# Altium integrated library Linear Technology Power Management Switching Regulator LTC1174-LTC3901.IntLib: 2647 symbols (part 98 of 364)
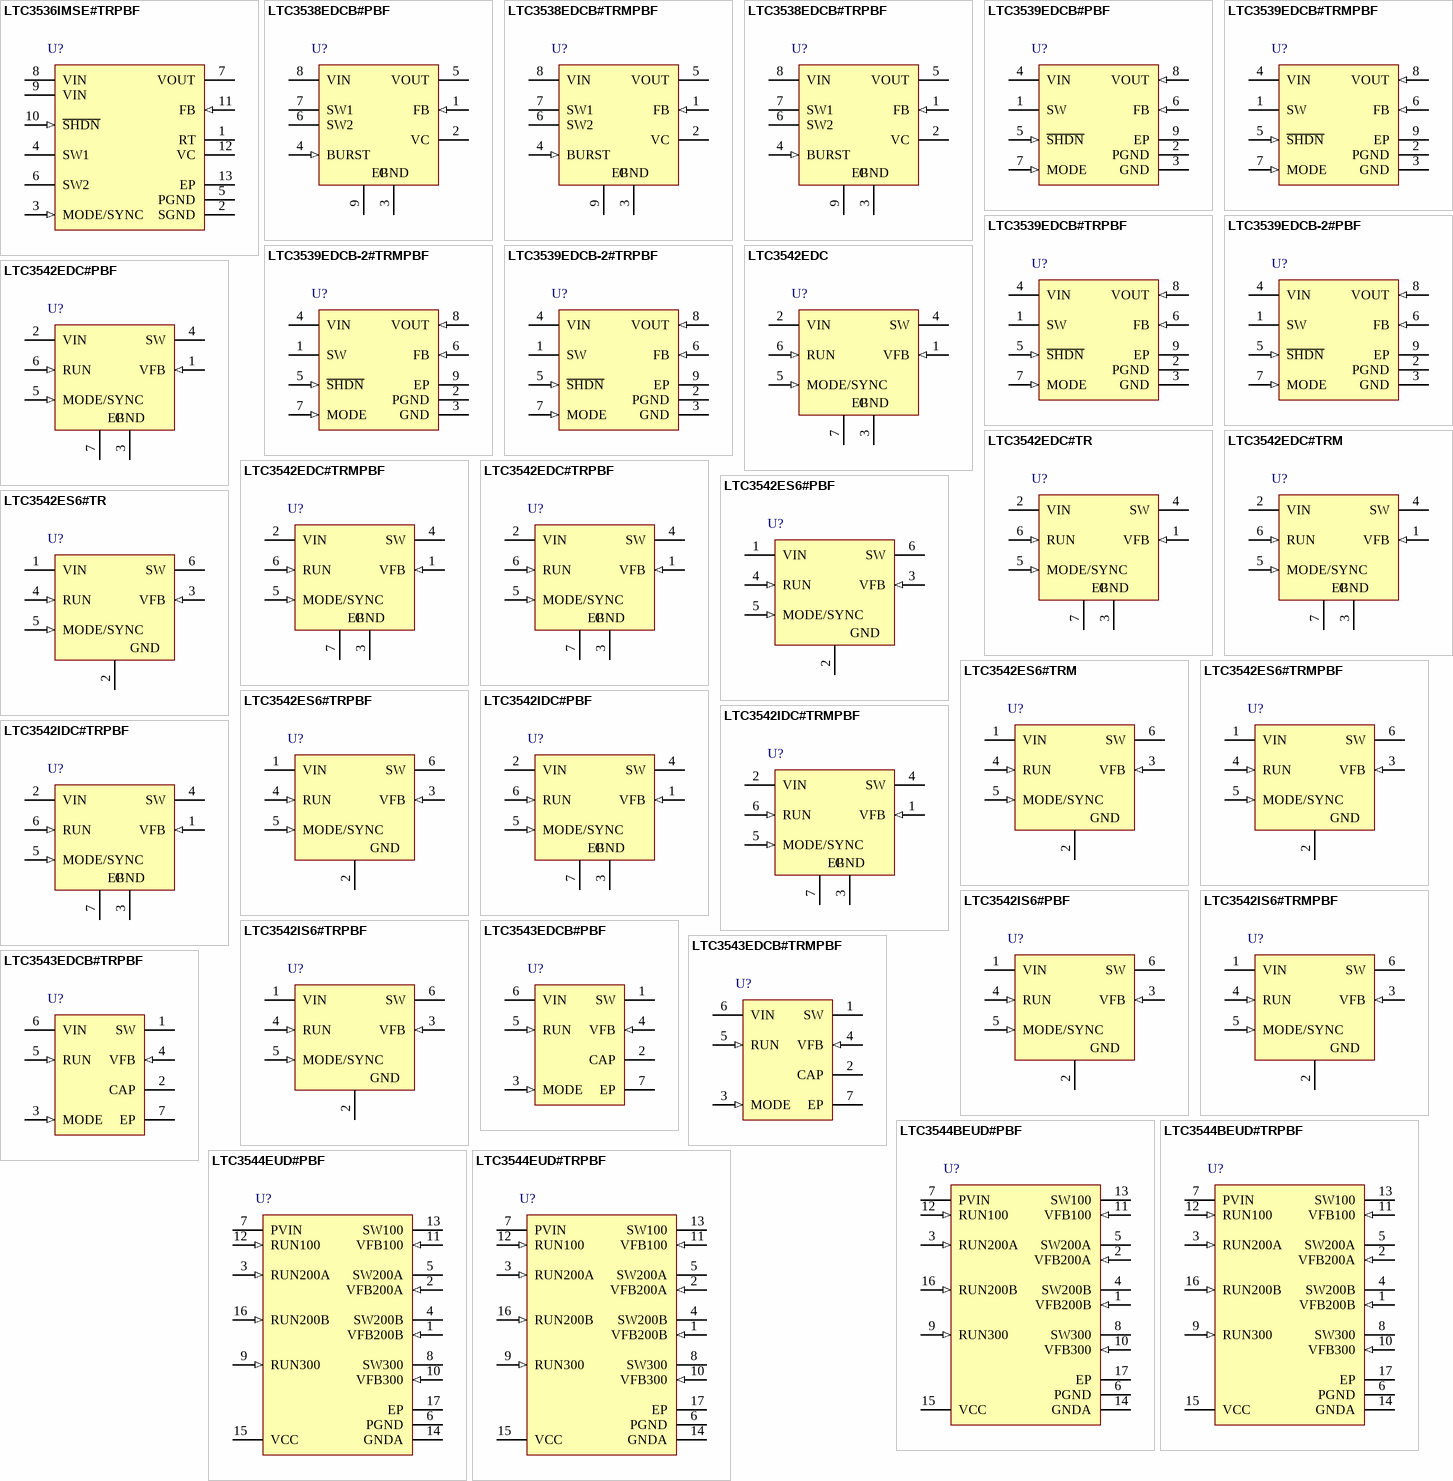
[diagram p165: symbols LTC3536IMSE#TRPBF to LTC3544EUD#TRPBF]

## LTC3542EDC
designator U?
500 mA, 2.25 MHz Synchronous Step-Down DC/DC Converter, 6-pin SON (DC6-6), -40 to 85 degC; Manufacturer: Linear Technology; PartNumber: LTC3542EDC; Number of Outputs: 1; DatasheetVersion: Rev. A; PackageVersion: Rev. B, 06/2010; PackageReference: DC6-6; PackageDescription: 6-Pin Plastic DFN, Body 2 x 2 mm, Pitch 0.5 mm; RoHS: FALSE; Mounting Technology: Surface Mount; Code_JEDEC: MO-229; ComponentLink1Description: Manufacturer URL; ComponentLink1URL: http://www.linear.com/; ComponentLink2Description: Datasheet; ComponentLink2URL: http://cds.linear.com/docs/en/datasheet/3542fa.pdf; ComponentLink3Description: Package Specification; ComponentLink3URL: http://cds.linear.com/docs/en/packaging/DFN_6_05-08-1703.pdf
footprint LT-DC6-6_V (SON, 6-Leads, Body 2x2mm, Pitch 0.5mm, Thermal Pad 1.42x0.61mm)
pins: 1 VFB (in) "Output Feedback Pin. Receives the feedback voltage from an external resistive divider across the output. Nominal voltage for this pin is 0.6V.", 2 VIN (power) "Power Supply Pin. Must be closely decoupled to GND.", 3 GND (power) "Ground Pin.", 4 SW (power) "Switch Node Connection to Inductor. This pin connects to the drains of the internal main and synchronous power MOSFET switches.", 5 MODE/SYNC (in) "Mode Selection and Oscillator Synchronization Pin. This pin controls the operation of the device. When tied to GND or VIN, Burst Mode operation or pulse skipping mode is selected, respectively. Do not float this pin. The (See Datasheet)", 6 RUN (in) "Converter Enable Pin. Forcing this pin above 1.5V enables this part, while forcing it below 0.3V causes the device to shut down. In shutdown, all functions are disabled drawing <1uA supply current. This pin must be driven; (See Datasheet)", 7 EP (power) "Exposed Pad. The Exposed Pad is ground. It must be soldered to PCB ground to provide both electrical contact and optimum thermal performance."

## LTC3542EDC#PBF
designator U?
500 mA, 2.25 MHz Synchronous Step-Down DC/DC Converter, 6-pin SON (DC6-6), -40 to 85 degC, Pb-Free; Manufacturer: Linear Technology; PartNumber: LTC3542EDC#PBF; Number of Outputs: 1; DatasheetVersion: Rev. A; PackageVersion: Rev. B, 06/2010; PackageReference: DC6-6; PackageDescription: 6-Pin Plastic DFN, Body 2 x 2 mm, Pitch 0.5 mm; Supplier 1: Farnell; Supplier Part Number 1: 2308147; Supplier 2: Newark; Supplier Part Number 2: 78T3203; RoHS: TRUE; Mounting Technology: Surface Mount; Code_JEDEC: MO-229; ComponentLink1Description: Manufacturer URL; ComponentLink1URL: http://www.linear.com/; ComponentLink2Description: Datasheet; ComponentLink2URL: http://cds.linear.com/docs/en/datasheet/3542fa.pdf; ComponentLink3Description: Package Specification; ComponentLink3URL: http://cds.linear.com/docs/en/packaging/DFN_6_05-08-1703.pdf
footprint LT-DC6-6_V (SON, 6-Leads, Body 2x2mm, Pitch 0.5mm, Thermal Pad 1.42x0.61mm)
pins: 1 VFB (in) "Output Feedback Pin. Receives the feedback voltage from an external resistive divider across the output. Nominal voltage for this pin is 0.6V.", 2 VIN (power) "Power Supply Pin. Must be closely decoupled to GND.", 3 GND (power) "Ground Pin.", 4 SW (power) "Switch Node Connection to Inductor. This pin connects to the drains of the internal main and synchronous power MOSFET switches.", 5 MODE/SYNC (in) "Mode Selection and Oscillator Synchronization Pin. This pin controls the operation of the device. When tied to GND or VIN, Burst Mode operation or pulse skipping mode is selected, respectively. Do not float this pin. The (See Datasheet)", 6 RUN (in) "Converter Enable Pin. Forcing this pin above 1.5V enables this part, while forcing it below 0.3V causes the device to shut down. In shutdown, all functions are disabled drawing <1uA supply current. This pin must be driven; (See Datasheet)", 7 EP (power) "Exposed Pad. The Exposed Pad is ground. It must be soldered to PCB ground to provide both electrical contact and optimum thermal performance."

## LTC3542EDC#TR
designator U?
500 mA, 2.25 MHz Synchronous Step-Down DC/DC Converter, 6-pin SON (DC6-6), -40 to 85 degC, Tape and Reel; Manufacturer: Linear Technology; PartNumber: LTC3542EDC#TR; Number of Outputs: 1; DatasheetVersion: Rev. A; PackageVersion: Rev. B, 06/2010; PackageReference: DC6-6; PackageDescription: 6-Pin Plastic DFN, Body 2 x 2 mm, Pitch 0.5 mm; Packing: Tape and Reel; RoHS: FALSE; Mounting Technology: Surface Mount; Code_JEDEC: MO-229; ComponentLink1Description: Manufacturer URL; ComponentLink1URL: http://www.linear.com/; ComponentLink2Description: Datasheet; ComponentLink2URL: http://cds.linear.com/docs/en/datasheet/3542fa.pdf; ComponentLink3Description: Package Specification; ComponentLink3URL: http://cds.linear.com/docs/en/packaging/DFN_6_05-08-1703.pdf
footprint LT-DC6-6_V (SON, 6-Leads, Body 2x2mm, Pitch 0.5mm, Thermal Pad 1.42x0.61mm)
pins: 1 VFB (in) "Output Feedback Pin. Receives the feedback voltage from an external resistive divider across the output. Nominal voltage for this pin is 0.6V.", 2 VIN (power) "Power Supply Pin. Must be closely decoupled to GND.", 3 GND (power) "Ground Pin.", 4 SW (power) "Switch Node Connection to Inductor. This pin connects to the drains of the internal main and synchronous power MOSFET switches.", 5 MODE/SYNC (in) "Mode Selection and Oscillator Synchronization Pin. This pin controls the operation of the device. When tied to GND or VIN, Burst Mode operation or pulse skipping mode is selected, respectively. Do not float this pin. The (See Datasheet)", 6 RUN (in) "Converter Enable Pin. Forcing this pin above 1.5V enables this part, while forcing it below 0.3V causes the device to shut down. In shutdown, all functions are disabled drawing <1uA supply current. This pin must be driven; (See Datasheet)", 7 EP (power) "Exposed Pad. The Exposed Pad is ground. It must be soldered to PCB ground to provide both electrical contact and optimum thermal performance."

## LTC3542EDC#TRM
designator U?
500 mA, 2.25 MHz Synchronous Step-Down DC/DC Converter, 6-pin SON (DC6-6), -40 to 85 degC, Mini Tape and Reel; Manufacturer: Linear Technology; PartNumber: LTC3542EDC#TRM; Number of Outputs: 1; DatasheetVersion: Rev. A; PackageVersion: Rev. B, 06/2010; PackageReference: DC6-6; PackageDescription: 6-Pin Plastic DFN, Body 2 x 2 mm, Pitch 0.5 mm; Packing: Mini Tape and Reel; RoHS: FALSE; Mounting Technology: Surface Mount; Code_JEDEC: MO-229; ComponentLink1Description: Manufacturer URL; ComponentLink1URL: http://www.linear.com/; ComponentLink2Description: Datasheet; ComponentLink2URL: http://cds.linear.com/docs/en/datasheet/3542fa.pdf; ComponentLink3Description: Package Specification; ComponentLink3URL: http://cds.linear.com/docs/en/packaging/DFN_6_05-08-1703.pdf
footprint LT-DC6-6_V (SON, 6-Leads, Body 2x2mm, Pitch 0.5mm, Thermal Pad 1.42x0.61mm)
pins: 1 VFB (in) "Output Feedback Pin. Receives the feedback voltage from an external resistive divider across the output. Nominal voltage for this pin is 0.6V.", 2 VIN (power) "Power Supply Pin. Must be closely decoupled to GND.", 3 GND (power) "Ground Pin.", 4 SW (power) "Switch Node Connection to Inductor. This pin connects to the drains of the internal main and synchronous power MOSFET switches.", 5 MODE/SYNC (in) "Mode Selection and Oscillator Synchronization Pin. This pin controls the operation of the device. When tied to GND or VIN, Burst Mode operation or pulse skipping mode is selected, respectively. Do not float this pin. The (See Datasheet)", 6 RUN (in) "Converter Enable Pin. Forcing this pin above 1.5V enables this part, while forcing it below 0.3V causes the device to shut down. In shutdown, all functions are disabled drawing <1uA supply current. This pin must be driven; (See Datasheet)", 7 EP (power) "Exposed Pad. The Exposed Pad is ground. It must be soldered to PCB ground to provide both electrical contact and optimum thermal performance."

## LTC3542EDC#TRMPBF
designator U?
500 mA, 2.25 MHz Synchronous Step-Down DC/DC Converter, 6-pin SON (DC6-6), -40 to 85 degC, Pb-Free, Mini Tape and Reel; Manufacturer: Linear Technology; PartNumber: LTC3542EDC#TRMPBF; Number of Outputs: 1; DatasheetVersion: Rev. A; PackageVersion: Rev. B, 06/2010; PackageReference: DC6-6; PackageDescription: 6-Pin Plastic DFN, Body 2 x 2 mm, Pitch 0.5 mm; Supplier 1: Digi-Key; Supplier Part Number 1: LTC3542EDC#TRMPBFTR-ND; Supplier 2: Digi-Key; Supplier Part Number 2: LTC3542EDC#TRMPBFCT-ND; Supplier 3: Digi-Key; Supplier Part Number 3: LTC3542EDC#TRMPBFDKR-ND; Supplier 4: Farnell; Supplier Part Number 4: 1715237; Supplier 5: Farnell; Supplier Part Number 5: 1715237RL; Packing: Mini Tape and Reel; RoHS: TRUE; Mounting Technology: Surface Mount; Code_JEDEC: MO-229; ComponentLink1Description: Manufacturer URL; ComponentLink1URL: http://www.linear.com/; ComponentLink2Description: Datasheet; ComponentLink2URL: http://cds.linear.com/docs/en/datasheet/3542fa.pdf; ComponentLink3Description: Package Specification; ComponentLink3URL: http://cds.linear.com/docs/en/packaging/DFN_6_05-08-1703.pdf
footprint LT-DC6-6_V (SON, 6-Leads, Body 2x2mm, Pitch 0.5mm, Thermal Pad 1.42x0.61mm)
pins: 1 VFB (in) "Output Feedback Pin. Receives the feedback voltage from an external resistive divider across the output. Nominal voltage for this pin is 0.6V.", 2 VIN (power) "Power Supply Pin. Must be closely decoupled to GND.", 3 GND (power) "Ground Pin.", 4 SW (power) "Switch Node Connection to Inductor. This pin connects to the drains of the internal main and synchronous power MOSFET switches.", 5 MODE/SYNC (in) "Mode Selection and Oscillator Synchronization Pin. This pin controls the operation of the device. When tied to GND or VIN, Burst Mode operation or pulse skipping mode is selected, respectively. Do not float this pin. The (See Datasheet)", 6 RUN (in) "Converter Enable Pin. Forcing this pin above 1.5V enables this part, while forcing it below 0.3V causes the device to shut down. In shutdown, all functions are disabled drawing <1uA supply current. This pin must be driven; (See Datasheet)", 7 EP (power) "Exposed Pad. The Exposed Pad is ground. It must be soldered to PCB ground to provide both electrical contact and optimum thermal performance."

## LTC3542EDC#TRPBF
designator U?
500 mA, 2.25 MHz Synchronous Step-Down DC/DC Converter, 6-pin SON (DC6-6), -40 to 85 degC, Pb-Free, Tape and Reel; Manufacturer: Linear Technology; PartNumber: LTC3542EDC#TRPBF; Number of Outputs: 1; DatasheetVersion: Rev. A; PackageVersion: Rev. B, 06/2010; PackageReference: DC6-6; PackageDescription: 6-Pin Plastic DFN, Body 2 x 2 mm, Pitch 0.5 mm; Supplier 1: Digi-Key; Supplier Part Number 1: LTC3542EDC#TRPBF-ND; Packing: Tape and Reel; RoHS: TRUE; Mounting Technology: Surface Mount; Code_JEDEC: MO-229; ComponentLink1Description: Manufacturer URL; ComponentLink1URL: http://www.linear.com/; ComponentLink2Description: Datasheet; ComponentLink2URL: http://cds.linear.com/docs/en/datasheet/3542fa.pdf; ComponentLink3Description: Package Specification; ComponentLink3URL: http://cds.linear.com/docs/en/packaging/DFN_6_05-08-1703.pdf
footprint LT-DC6-6_V (SON, 6-Leads, Body 2x2mm, Pitch 0.5mm, Thermal Pad 1.42x0.61mm)
pins: 1 VFB (in) "Output Feedback Pin. Receives the feedback voltage from an external resistive divider across the output. Nominal voltage for this pin is 0.6V.", 2 VIN (power) "Power Supply Pin. Must be closely decoupled to GND.", 3 GND (power) "Ground Pin.", 4 SW (power) "Switch Node Connection to Inductor. This pin connects to the drains of the internal main and synchronous power MOSFET switches.", 5 MODE/SYNC (in) "Mode Selection and Oscillator Synchronization Pin. This pin controls the operation of the device. When tied to GND or VIN, Burst Mode operation or pulse skipping mode is selected, respectively. Do not float this pin. The (See Datasheet)", 6 RUN (in) "Converter Enable Pin. Forcing this pin above 1.5V enables this part, while forcing it below 0.3V causes the device to shut down. In shutdown, all functions are disabled drawing <1uA supply current. This pin must be driven; (See Datasheet)", 7 EP (power) "Exposed Pad. The Exposed Pad is ground. It must be soldered to PCB ground to provide both electrical contact and optimum thermal performance."

## LTC3542ES6#PBF
designator U?
500 mA, 2.25 MHz Synchronous Step-Down DC/DC Converter, 6-pin SOT23 (S6-6), -40 to 85 degC, Pb-Free; Manufacturer: Linear Technology; PartNumber: LTC3542ES6#PBF; Number of Outputs: 1; DatasheetVersion: Rev. A; PackageVersion: Jun-10; PackageReference: S6-6; PackageDescription: 6-Pin Plastic TSOT-23, Body 2.9 x 1.63 mm, Pitch 0.95 mm; Supplier 1: Farnell; Supplier Part Number 1: 2308148; Supplier 2: Newark; Supplier Part Number 2: 78T3204; RoHS: TRUE; Mounting Technology: Surface Mount; Code_JEDEC: MO-193; ComponentLink1Description: Manufacturer URL; ComponentLink1URL: http://www.linear.com/; ComponentLink2Description: Datasheet; ComponentLink2URL: http://cds.linear.com/docs/en/datasheet/3542fa.pdf; ComponentLink3Description: Package Specification; ComponentLink3URL: http://cds.linear.com/docs/en/packaging/SOT_6_05-08-1636.pdf
footprint LT-S6-6-TSOT-23_N (SOT23, 6-Leads, Body 2.9x1.75mm, Pitch 0.95mm, IPC Medium Density)
footprint LT-S6-6-TSOT-23_L (SOT23, 6-Leads, Body 2.9x1.75mm, Pitch 0.95mm, IPC High Density)
footprint LT-S6-6-TSOT-23_M (SOT23, 6-Leads, Body 2.9x1.75mm, Pitch 0.95mm, IPC Low Density)
pins: 1 VIN (power) "Power Supply Pin. Must be closely decoupled to GND.", 2 GND (power) "Ground Pin.", 3 VFB (in) "Output Feedback Pin. Receives the feedback voltage from an external resistive divider across the output. Nominal voltage for this pin is 0.6V.", 4 RUN (in) "Converter Enable Pin. Forcing this pin above 1.5V enables this part, while forcing it below 0.3V causes the device to shut down. In shutdown, all functions are disabled drawing <1uA supply current. This pin must be driven; (See Datasheet)", 5 MODE/SYNC (in) "Mode Selection and Oscillator Synchronization Pin. This pin controls the operation of the device. When tied to GND or VIN, Burst Mode operation or pulse skipping mode is selected, respectively. Do not float this pin. The (See Datasheet)", 6 SW (power) "Switch Node Connection to Inductor. This pin connects to the drains of the internal main and synchronous power MOSFET switches."

## LTC3542ES6#TR
designator U?
500 mA, 2.25 MHz Synchronous Step-Down DC/DC Converter, 6-pin SOT23 (S6-6), -40 to 85 degC, Tape and Reel; Manufacturer: Linear Technology; PartNumber: LTC3542ES6#TR; Number of Outputs: 1; DatasheetVersion: Rev. A; PackageVersion: Jun-10; PackageReference: S6-6; PackageDescription: 6-Pin Plastic TSOT-23, Body 2.9 x 1.63 mm, Pitch 0.95 mm; Packing: Tape and Reel; RoHS: FALSE; Mounting Technology: Surface Mount; Code_JEDEC: MO-193; ComponentLink1Description: Manufacturer URL; ComponentLink1URL: http://www.linear.com/; ComponentLink2Description: Datasheet; ComponentLink2URL: http://cds.linear.com/docs/en/datasheet/3542fa.pdf; ComponentLink3Description: Package Specification; ComponentLink3URL: http://cds.linear.com/docs/en/packaging/SOT_6_05-08-1636.pdf
footprint LT-S6-6-TSOT-23_N (SOT23, 6-Leads, Body 2.9x1.75mm, Pitch 0.95mm, IPC Medium Density)
footprint LT-S6-6-TSOT-23_L (SOT23, 6-Leads, Body 2.9x1.75mm, Pitch 0.95mm, IPC High Density)
footprint LT-S6-6-TSOT-23_M (SOT23, 6-Leads, Body 2.9x1.75mm, Pitch 0.95mm, IPC Low Density)
pins: 1 VIN (power) "Power Supply Pin. Must be closely decoupled to GND.", 2 GND (power) "Ground Pin.", 3 VFB (in) "Output Feedback Pin. Receives the feedback voltage from an external resistive divider across the output. Nominal voltage for this pin is 0.6V.", 4 RUN (in) "Converter Enable Pin. Forcing this pin above 1.5V enables this part, while forcing it below 0.3V causes the device to shut down. In shutdown, all functions are disabled drawing <1uA supply current. This pin must be driven; (See Datasheet)", 5 MODE/SYNC (in) "Mode Selection and Oscillator Synchronization Pin. This pin controls the operation of the device. When tied to GND or VIN, Burst Mode operation or pulse skipping mode is selected, respectively. Do not float this pin. The (See Datasheet)", 6 SW (power) "Switch Node Connection to Inductor. This pin connects to the drains of the internal main and synchronous power MOSFET switches."

## LTC3542ES6#TRM
designator U?
500 mA, 2.25 MHz Synchronous Step-Down DC/DC Converter, 6-pin SOT23 (S6-6), -40 to 85 degC, Mini Tape and Reel; Manufacturer: Linear Technology; PartNumber: LTC3542ES6#TRM; Number of Outputs: 1; DatasheetVersion: Rev. A; PackageVersion: Jun-10; PackageReference: S6-6; PackageDescription: 6-Pin Plastic TSOT-23, Body 2.9 x 1.63 mm, Pitch 0.95 mm; Packing: Mini Tape and Reel; RoHS: FALSE; Mounting Technology: Surface Mount; Code_JEDEC: MO-193; ComponentLink1Description: Manufacturer URL; ComponentLink1URL: http://www.linear.com/; ComponentLink2Description: Datasheet; ComponentLink2URL: http://cds.linear.com/docs/en/datasheet/3542fa.pdf; ComponentLink3Description: Package Specification; ComponentLink3URL: http://cds.linear.com/docs/en/packaging/SOT_6_05-08-1636.pdf
footprint LT-S6-6-TSOT-23_N (SOT23, 6-Leads, Body 2.9x1.75mm, Pitch 0.95mm, IPC Medium Density)
footprint LT-S6-6-TSOT-23_L (SOT23, 6-Leads, Body 2.9x1.75mm, Pitch 0.95mm, IPC High Density)
footprint LT-S6-6-TSOT-23_M (SOT23, 6-Leads, Body 2.9x1.75mm, Pitch 0.95mm, IPC Low Density)
pins: 1 VIN (power) "Power Supply Pin. Must be closely decoupled to GND.", 2 GND (power) "Ground Pin.", 3 VFB (in) "Output Feedback Pin. Receives the feedback voltage from an external resistive divider across the output. Nominal voltage for this pin is 0.6V.", 4 RUN (in) "Converter Enable Pin. Forcing this pin above 1.5V enables this part, while forcing it below 0.3V causes the device to shut down. In shutdown, all functions are disabled drawing <1uA supply current. This pin must be driven; (See Datasheet)", 5 MODE/SYNC (in) "Mode Selection and Oscillator Synchronization Pin. This pin controls the operation of the device. When tied to GND or VIN, Burst Mode operation or pulse skipping mode is selected, respectively. Do not float this pin. The (See Datasheet)", 6 SW (power) "Switch Node Connection to Inductor. This pin connects to the drains of the internal main and synchronous power MOSFET switches."

## LTC3542ES6#TRMPBF
designator U?
500 mA, 2.25 MHz Synchronous Step-Down DC/DC Converter, 6-pin SOT23 (S6-6), -40 to 85 degC, Pb-Free, Mini Tape and Reel; Manufacturer: Linear Technology; PartNumber: LTC3542ES6#TRMPBF; Number of Outputs: 1; DatasheetVersion: Rev. A; PackageVersion: Jun-10; PackageReference: S6-6; PackageDescription: 6-Pin Plastic TSOT-23, Body 2.9 x 1.63 mm, Pitch 0.95 mm; Supplier 1: Digi-Key; Supplier Part Number 1: LTC3542ES6#TRMPBFTR-ND; Supplier 2: Digi-Key; Supplier Part Number 2: LTC3542ES6#TRMPBFCT-ND; Supplier 3: Digi-Key; Supplier Part Number 3: LTC3542ES6#TRMPBFDKR-ND; Packing: Mini Tape and Reel; RoHS: TRUE; Mounting Technology: Surface Mount; Code_JEDEC: MO-193; ComponentLink1Description: Manufacturer URL; ComponentLink1URL: http://www.linear.com/; ComponentLink2Description: Datasheet; ComponentLink2URL: http://cds.linear.com/docs/en/datasheet/3542fa.pdf; ComponentLink3Description: Package Specification; ComponentLink3URL: http://cds.linear.com/docs/en/packaging/SOT_6_05-08-1636.pdf
footprint LT-S6-6-TSOT-23_N (SOT23, 6-Leads, Body 2.9x1.75mm, Pitch 0.95mm, IPC Medium Density)
footprint LT-S6-6-TSOT-23_L (SOT23, 6-Leads, Body 2.9x1.75mm, Pitch 0.95mm, IPC High Density)
footprint LT-S6-6-TSOT-23_M (SOT23, 6-Leads, Body 2.9x1.75mm, Pitch 0.95mm, IPC Low Density)
pins: 1 VIN (power) "Power Supply Pin. Must be closely decoupled to GND.", 2 GND (power) "Ground Pin.", 3 VFB (in) "Output Feedback Pin. Receives the feedback voltage from an external resistive divider across the output. Nominal voltage for this pin is 0.6V.", 4 RUN (in) "Converter Enable Pin. Forcing this pin above 1.5V enables this part, while forcing it below 0.3V causes the device to shut down. In shutdown, all functions are disabled drawing <1uA supply current. This pin must be driven; (See Datasheet)", 5 MODE/SYNC (in) "Mode Selection and Oscillator Synchronization Pin. This pin controls the operation of the device. When tied to GND or VIN, Burst Mode operation or pulse skipping mode is selected, respectively. Do not float this pin. The (See Datasheet)", 6 SW (power) "Switch Node Connection to Inductor. This pin connects to the drains of the internal main and synchronous power MOSFET switches."

## LTC3542ES6#TRPBF
designator U?
500 mA, 2.25 MHz Synchronous Step-Down DC/DC Converter, 6-pin SOT23 (S6-6), -40 to 85 degC, Pb-Free, Tape and Reel; Manufacturer: Linear Technology; PartNumber: LTC3542ES6#TRPBF; Number of Outputs: 1; DatasheetVersion: Rev. A; PackageVersion: Jun-10; PackageReference: S6-6; PackageDescription: 6-Pin Plastic TSOT-23, Body 2.9 x 1.63 mm, Pitch 0.95 mm; Supplier 1: Digi-Key; Supplier Part Number 1: LTC3542ES6#TRPBF-ND; Packing: Tape and Reel; RoHS: TRUE; Mounting Technology: Surface Mount; Code_JEDEC: MO-193; ComponentLink1Description: Manufacturer URL; ComponentLink1URL: http://www.linear.com/; ComponentLink2Description: Datasheet; ComponentLink2URL: http://cds.linear.com/docs/en/datasheet/3542fa.pdf; ComponentLink3Description: Package Specification; ComponentLink3URL: http://cds.linear.com/docs/en/packaging/SOT_6_05-08-1636.pdf
footprint LT-S6-6-TSOT-23_N (SOT23, 6-Leads, Body 2.9x1.75mm, Pitch 0.95mm, IPC Medium Density)
footprint LT-S6-6-TSOT-23_L (SOT23, 6-Leads, Body 2.9x1.75mm, Pitch 0.95mm, IPC High Density)
footprint LT-S6-6-TSOT-23_M (SOT23, 6-Leads, Body 2.9x1.75mm, Pitch 0.95mm, IPC Low Density)
pins: 1 VIN (power) "Power Supply Pin. Must be closely decoupled to GND.", 2 GND (power) "Ground Pin.", 3 VFB (in) "Output Feedback Pin. Receives the feedback voltage from an external resistive divider across the output. Nominal voltage for this pin is 0.6V.", 4 RUN (in) "Converter Enable Pin. Forcing this pin above 1.5V enables this part, while forcing it below 0.3V causes the device to shut down. In shutdown, all functions are disabled drawing <1uA supply current. This pin must be driven; (See Datasheet)", 5 MODE/SYNC (in) "Mode Selection and Oscillator Synchronization Pin. This pin controls the operation of the device. When tied to GND or VIN, Burst Mode operation or pulse skipping mode is selected, respectively. Do not float this pin. The (See Datasheet)", 6 SW (power) "Switch Node Connection to Inductor. This pin connects to the drains of the internal main and synchronous power MOSFET switches."

## LTC3542IDC#PBF
designator U?
500 mA, 2.25 MHz Synchronous Step-Down DC/DC Converter, 6-pin SON (DC6-6), -40 to 125 degC, Pb-Free; Manufacturer: Linear Technology; PartNumber: LTC3542IDC#PBF; Number of Outputs: 1; DatasheetVersion: Rev. A; PackageVersion: Rev. B, 06/2010; PackageReference: DC6-6; PackageDescription: 6-Pin Plastic DFN, Body 2 x 2 mm, Pitch 0.5 mm; Supplier 1: Newark; Supplier Part Number 1: 78T3205; RoHS: TRUE; Mounting Technology: Surface Mount; Code_JEDEC: MO-229; ComponentLink1Description: Manufacturer URL; ComponentLink1URL: http://www.linear.com/; ComponentLink2Description: Datasheet; ComponentLink2URL: http://cds.linear.com/docs/en/datasheet/3542fa.pdf; ComponentLink3Description: Package Specification; ComponentLink3URL: http://cds.linear.com/docs/en/packaging/DFN_6_05-08-1703.pdf
footprint LT-DC6-6_V (SON, 6-Leads, Body 2x2mm, Pitch 0.5mm, Thermal Pad 1.42x0.61mm)
pins: 1 VFB (in) "Output Feedback Pin. Receives the feedback voltage from an external resistive divider across the output. Nominal voltage for this pin is 0.6V.", 2 VIN (power) "Power Supply Pin. Must be closely decoupled to GND.", 3 GND (power) "Ground Pin.", 4 SW (power) "Switch Node Connection to Inductor. This pin connects to the drains of the internal main and synchronous power MOSFET switches.", 5 MODE/SYNC (in) "Mode Selection and Oscillator Synchronization Pin. This pin controls the operation of the device. When tied to GND or VIN, Burst Mode operation or pulse skipping mode is selected, respectively. Do not float this pin. The (See Datasheet)", 6 RUN (in) "Converter Enable Pin. Forcing this pin above 1.5V enables this part, while forcing it below 0.3V causes the device to shut down. In shutdown, all functions are disabled drawing <1uA supply current. This pin must be driven; (See Datasheet)", 7 EP (power) "Exposed Pad. The Exposed Pad is ground. It must be soldered to PCB ground to provide both electrical contact and optimum thermal performance."

## LTC3542IDC#TRMPBF
designator U?
500 mA, 2.25 MHz Synchronous Step-Down DC/DC Converter, 6-pin SON (DC6-6), -40 to 125 degC, Pb-Free, Mini Tape and Reel; Manufacturer: Linear Technology; PartNumber: LTC3542IDC#TRMPBF; Number of Outputs: 1; DatasheetVersion: Rev. A; PackageVersion: Rev. B, 06/2010; PackageReference: DC6-6; PackageDescription: 6-Pin Plastic DFN, Body 2 x 2 mm, Pitch 0.5 mm; Supplier 1: Digi-Key; Supplier Part Number 1: LTC3542IDC#TRMPBF-ND; Packing: Mini Tape and Reel; RoHS: TRUE; Mounting Technology: Surface Mount; Code_JEDEC: MO-229; ComponentLink1Description: Manufacturer URL; ComponentLink1URL: http://www.linear.com/; ComponentLink2Description: Datasheet; ComponentLink2URL: http://cds.linear.com/docs/en/datasheet/3542fa.pdf; ComponentLink3Description: Package Specification; ComponentLink3URL: http://cds.linear.com/docs/en/packaging/DFN_6_05-08-1703.pdf
footprint LT-DC6-6_V (SON, 6-Leads, Body 2x2mm, Pitch 0.5mm, Thermal Pad 1.42x0.61mm)
pins: 1 VFB (in) "Output Feedback Pin. Receives the feedback voltage from an external resistive divider across the output. Nominal voltage for this pin is 0.6V.", 2 VIN (power) "Power Supply Pin. Must be closely decoupled to GND.", 3 GND (power) "Ground Pin.", 4 SW (power) "Switch Node Connection to Inductor. This pin connects to the drains of the internal main and synchronous power MOSFET switches.", 5 MODE/SYNC (in) "Mode Selection and Oscillator Synchronization Pin. This pin controls the operation of the device. When tied to GND or VIN, Burst Mode operation or pulse skipping mode is selected, respectively. Do not float this pin. The (See Datasheet)", 6 RUN (in) "Converter Enable Pin. Forcing this pin above 1.5V enables this part, while forcing it below 0.3V causes the device to shut down. In shutdown, all functions are disabled drawing <1uA supply current. This pin must be driven; (See Datasheet)", 7 EP (power) "Exposed Pad. The Exposed Pad is ground. It must be soldered to PCB ground to provide both electrical contact and optimum thermal performance."

## LTC3542IDC#TRPBF
designator U?
500 mA, 2.25 MHz Synchronous Step-Down DC/DC Converter, 6-pin SON (DC6-6), -40 to 125 degC, Pb-Free, Tape and Reel; Manufacturer: Linear Technology; PartNumber: LTC3542IDC#TRPBF; Number of Outputs: 1; DatasheetVersion: Rev. A; PackageVersion: Rev. B, 06/2010; PackageReference: DC6-6; PackageDescription: 6-Pin Plastic DFN, Body 2 x 2 mm, Pitch 0.5 mm; Supplier 1: Digi-Key; Supplier Part Number 1: LTC3542IDC#TRPBF-ND; Packing: Tape and Reel; RoHS: TRUE; Mounting Technology: Surface Mount; Code_JEDEC: MO-229; ComponentLink1Description: Manufacturer URL; ComponentLink1URL: http://www.linear.com/; ComponentLink2Description: Datasheet; ComponentLink2URL: http://cds.linear.com/docs/en/datasheet/3542fa.pdf; ComponentLink3Description: Package Specification; ComponentLink3URL: http://cds.linear.com/docs/en/packaging/DFN_6_05-08-1703.pdf
footprint LT-DC6-6_V (SON, 6-Leads, Body 2x2mm, Pitch 0.5mm, Thermal Pad 1.42x0.61mm)
pins: 1 VFB (in) "Output Feedback Pin. Receives the feedback voltage from an external resistive divider across the output. Nominal voltage for this pin is 0.6V.", 2 VIN (power) "Power Supply Pin. Must be closely decoupled to GND.", 3 GND (power) "Ground Pin.", 4 SW (power) "Switch Node Connection to Inductor. This pin connects to the drains of the internal main and synchronous power MOSFET switches.", 5 MODE/SYNC (in) "Mode Selection and Oscillator Synchronization Pin. This pin controls the operation of the device. When tied to GND or VIN, Burst Mode operation or pulse skipping mode is selected, respectively. Do not float this pin. The (See Datasheet)", 6 RUN (in) "Converter Enable Pin. Forcing this pin above 1.5V enables this part, while forcing it below 0.3V causes the device to shut down. In shutdown, all functions are disabled drawing <1uA supply current. This pin must be driven; (See Datasheet)", 7 EP (power) "Exposed Pad. The Exposed Pad is ground. It must be soldered to PCB ground to provide both electrical contact and optimum thermal performance."

## LTC3542IS6#PBF
designator U?
500 mA, 2.25 MHz Synchronous Step-Down DC/DC Converter, 6-pin SOT23 (S6-6), -40 to 125 degC, Pb-Free; Manufacturer: Linear Technology; PartNumber: LTC3542IS6#PBF; Number of Outputs: 1; DatasheetVersion: Rev. A; PackageVersion: Jun-10; PackageReference: S6-6; PackageDescription: 6-Pin Plastic TSOT-23, Body 2.9 x 1.63 mm, Pitch 0.95 mm; RoHS: TRUE; Mounting Technology: Surface Mount; Code_JEDEC: MO-193; ComponentLink1Description: Manufacturer URL; ComponentLink1URL: http://www.linear.com/; ComponentLink2Description: Datasheet; ComponentLink2URL: http://cds.linear.com/docs/en/datasheet/3542fa.pdf; ComponentLink3Description: Package Specification; ComponentLink3URL: http://cds.linear.com/docs/en/packaging/SOT_6_05-08-1636.pdf
footprint LT-S6-6-TSOT-23_N (SOT23, 6-Leads, Body 2.9x1.75mm, Pitch 0.95mm, IPC Medium Density)
footprint LT-S6-6-TSOT-23_L (SOT23, 6-Leads, Body 2.9x1.75mm, Pitch 0.95mm, IPC High Density)
footprint LT-S6-6-TSOT-23_M (SOT23, 6-Leads, Body 2.9x1.75mm, Pitch 0.95mm, IPC Low Density)
pins: 1 VIN (power) "Power Supply Pin. Must be closely decoupled to GND.", 2 GND (power) "Ground Pin.", 3 VFB (in) "Output Feedback Pin. Receives the feedback voltage from an external resistive divider across the output. Nominal voltage for this pin is 0.6V.", 4 RUN (in) "Converter Enable Pin. Forcing this pin above 1.5V enables this part, while forcing it below 0.3V causes the device to shut down. In shutdown, all functions are disabled drawing <1uA supply current. This pin must be driven; (See Datasheet)", 5 MODE/SYNC (in) "Mode Selection and Oscillator Synchronization Pin. This pin controls the operation of the device. When tied to GND or VIN, Burst Mode operation or pulse skipping mode is selected, respectively. Do not float this pin. The (See Datasheet)", 6 SW (power) "Switch Node Connection to Inductor. This pin connects to the drains of the internal main and synchronous power MOSFET switches."

## LTC3542IS6#TRMPBF
designator U?
500 mA, 2.25 MHz Synchronous Step-Down DC/DC Converter, 6-pin SOT23 (S6-6), -40 to 125 degC, Pb-Free, Mini Tape and Reel; Manufacturer: Linear Technology; PartNumber: LTC3542IS6#TRMPBF; Number of Outputs: 1; DatasheetVersion: Rev. A; PackageVersion: Jun-10; PackageReference: S6-6; PackageDescription: 6-Pin Plastic TSOT-23, Body 2.9 x 1.63 mm, Pitch 0.95 mm; Supplier 1: Digi-Key; Supplier Part Number 1: LTC3542IS6#TRMPBF-ND; Packing: Mini Tape and Reel; RoHS: TRUE; Mounting Technology: Surface Mount; Code_JEDEC: MO-193; ComponentLink1Description: Manufacturer URL; ComponentLink1URL: http://www.linear.com/; ComponentLink2Description: Datasheet; ComponentLink2URL: http://cds.linear.com/docs/en/datasheet/3542fa.pdf; ComponentLink3Description: Package Specification; ComponentLink3URL: http://cds.linear.com/docs/en/packaging/SOT_6_05-08-1636.pdf
footprint LT-S6-6-TSOT-23_N (SOT23, 6-Leads, Body 2.9x1.75mm, Pitch 0.95mm, IPC Medium Density)
footprint LT-S6-6-TSOT-23_L (SOT23, 6-Leads, Body 2.9x1.75mm, Pitch 0.95mm, IPC High Density)
footprint LT-S6-6-TSOT-23_M (SOT23, 6-Leads, Body 2.9x1.75mm, Pitch 0.95mm, IPC Low Density)
pins: 1 VIN (power) "Power Supply Pin. Must be closely decoupled to GND.", 2 GND (power) "Ground Pin.", 3 VFB (in) "Output Feedback Pin. Receives the feedback voltage from an external resistive divider across the output. Nominal voltage for this pin is 0.6V.", 4 RUN (in) "Converter Enable Pin. Forcing this pin above 1.5V enables this part, while forcing it below 0.3V causes the device to shut down. In shutdown, all functions are disabled drawing <1uA supply current. This pin must be driven; (See Datasheet)", 5 MODE/SYNC (in) "Mode Selection and Oscillator Synchronization Pin. This pin controls the operation of the device. When tied to GND or VIN, Burst Mode operation or pulse skipping mode is selected, respectively. Do not float this pin. The (See Datasheet)", 6 SW (power) "Switch Node Connection to Inductor. This pin connects to the drains of the internal main and synchronous power MOSFET switches."

## LTC3542IS6#TRPBF
designator U?
500 mA, 2.25 MHz Synchronous Step-Down DC/DC Converter, 6-pin SOT23 (S6-6), -40 to 125 degC, Pb-Free, Tape and Reel; Manufacturer: Linear Technology; PartNumber: LTC3542IS6#TRPBF; Number of Outputs: 1; DatasheetVersion: Rev. A; PackageVersion: Jun-10; PackageReference: S6-6; PackageDescription: 6-Pin Plastic TSOT-23, Body 2.9 x 1.63 mm, Pitch 0.95 mm; Supplier 1: Digi-Key; Supplier Part Number 1: LTC3542IS6#TRPBF-ND; Packing: Tape and Reel; RoHS: TRUE; Mounting Technology: Surface Mount; Code_JEDEC: MO-193; ComponentLink1Description: Manufacturer URL; ComponentLink1URL: http://www.linear.com/; ComponentLink2Description: Datasheet; ComponentLink2URL: http://cds.linear.com/docs/en/datasheet/3542fa.pdf; ComponentLink3Description: Package Specification; ComponentLink3URL: http://cds.linear.com/docs/en/packaging/SOT_6_05-08-1636.pdf
footprint LT-S6-6-TSOT-23_N (SOT23, 6-Leads, Body 2.9x1.75mm, Pitch 0.95mm, IPC Medium Density)
footprint LT-S6-6-TSOT-23_L (SOT23, 6-Leads, Body 2.9x1.75mm, Pitch 0.95mm, IPC High Density)
footprint LT-S6-6-TSOT-23_M (SOT23, 6-Leads, Body 2.9x1.75mm, Pitch 0.95mm, IPC Low Density)
pins: 1 VIN (power) "Power Supply Pin. Must be closely decoupled to GND.", 2 GND (power) "Ground Pin.", 3 VFB (in) "Output Feedback Pin. Receives the feedback voltage from an external resistive divider across the output. Nominal voltage for this pin is 0.6V.", 4 RUN (in) "Converter Enable Pin. Forcing this pin above 1.5V enables this part, while forcing it below 0.3V causes the device to shut down. In shutdown, all functions are disabled drawing <1uA supply current. This pin must be driven; (See Datasheet)", 5 MODE/SYNC (in) "Mode Selection and Oscillator Synchronization Pin. This pin controls the operation of the device. When tied to GND or VIN, Burst Mode operation or pulse skipping mode is selected, respectively. Do not float this pin. The (See Datasheet)", 6 SW (power) "Switch Node Connection to Inductor. This pin connects to the drains of the internal main and synchronous power MOSFET switches."

## LTC3543EDCB#PBF
designator U?
600 mA Synchronous Step Down Buck Regulator with PLL, Soft-Start and Spread Spectrum, 6-pin SON (DCB-6), -40 to 85 degC, Pb-Free; Manufacturer: Linear Technology; PartNumber: LTC3543EDCB#PBF; Number of Outputs: 1; DatasheetVersion: Rev. A; PackageVersion: Rev. A, 03/2011; PackageReference: DCB-6; PackageDescription: 6-Pin Plastic DFN, Body 2 x 3 mm, Pitch 0.5 mm; Supplier 1: Farnell; Supplier Part Number 1: 1329363; RoHS: TRUE; Mounting Technology: Surface Mount; Code_JEDEC: MO-229; ComponentLink1Description: Manufacturer URL; ComponentLink1URL: http://www.linear.com/; ComponentLink2Description: Datasheet; ComponentLink2URL: http://cds.linear.com/docs/en/datasheet/3543fa.pdf; ComponentLink3Description: Package Specification; ComponentLink3URL: http://www.linear.com/docs/en/packaging/(DCB6)%20DFN%2005-08-1715%20Rev%20A.pdf
footprint LT-DCB-6_V (SON, 6-Leads, Body 3x2mm, Pitch 0.5mm, Thermal Pad 1.65x1.35mm)
pins: 1 SW (power) "Switch Node Connector to Inductor. This pin connects to the drains of the internal main and synchronous power MOSFET switches.", 2 CAP "Capacitor used for smoothing out spread spectrum or for PLL response. Connect to a capacitor whose other plate is connected to GND, or allow the pin to float. Value = 1nF - 10nF.", 3 MODE (in) "Mode Selection Pin.", 4 VFB (in) "Feedback sensing pin for the external feedback resistors.", 5 RUN (in) "Run Control Input. Forcing pin above 1.5V enables the part. Forcing the pin below 0.3V shuts down the device. In shutdown, all functions are disabled, drawing <1uA of supply current. Do not leave the RUN pin floating.", 6 VIN (power) "Main Supply Pin.", 7 EP (power) "Exposed Pad connected to ground."

## LTC3543EDCB#TRMPBF
designator U?
600 mA Synchronous Step Down Buck Regulator with PLL, Soft-Start and Spread Spectrum, 6-pin SON (DCB-6), -40 to 85 degC, Pb-Free, Mini Tape and Reel; Manufacturer: Linear Technology; PartNumber: LTC3543EDCB#TRMPBF; Number of Outputs: 1; DatasheetVersion: Rev. A; PackageVersion: Rev. A, 03/2011; PackageReference: DCB-6; PackageDescription: 6-Pin Plastic DFN, Body 2 x 3 mm, Pitch 0.5 mm; Supplier 1: Digi-Key; Supplier Part Number 1: LTC3543EDCB#TRMPBF-ND; Packing: Mini Tape and Reel; RoHS: TRUE; Mounting Technology: Surface Mount; Code_JEDEC: MO-229; ComponentLink1Description: Manufacturer URL; ComponentLink1URL: http://www.linear.com/; ComponentLink2Description: Datasheet; ComponentLink2URL: http://cds.linear.com/docs/en/datasheet/3543fa.pdf; ComponentLink3Description: Package Specification; ComponentLink3URL: http://www.linear.com/docs/en/packaging/(DCB6)%20DFN%2005-08-1715%20Rev%20A.pdf
footprint LT-DCB-6_V (SON, 6-Leads, Body 3x2mm, Pitch 0.5mm, Thermal Pad 1.65x1.35mm)
pins: 1 SW (power) "Switch Node Connector to Inductor. This pin connects to the drains of the internal main and synchronous power MOSFET switches.", 2 CAP "Capacitor used for smoothing out spread spectrum or for PLL response. Connect to a capacitor whose other plate is connected to GND, or allow the pin to float. Value = 1nF - 10nF.", 3 MODE (in) "Mode Selection Pin.", 4 VFB (in) "Feedback sensing pin for the external feedback resistors.", 5 RUN (in) "Run Control Input. Forcing pin above 1.5V enables the part. Forcing the pin below 0.3V shuts down the device. In shutdown, all functions are disabled, drawing <1uA of supply current. Do not leave the RUN pin floating.", 6 VIN (power) "Main Supply Pin.", 7 EP (power) "Exposed Pad connected to ground."

## LTC3543EDCB#TRPBF
designator U?
600 mA Synchronous Step Down Buck Regulator with PLL, Soft-Start and Spread Spectrum, 6-pin SON (DCB-6), -40 to 85 degC, Pb-Free, Tape and Reel; Manufacturer: Linear Technology; PartNumber: LTC3543EDCB#TRPBF; Number of Outputs: 1; DatasheetVersion: Rev. A; PackageVersion: Rev. A, 03/2011; PackageReference: DCB-6; PackageDescription: 6-Pin Plastic DFN, Body 2 x 3 mm, Pitch 0.5 mm; Supplier 1: Digi-Key; Supplier Part Number 1: LTC3543EDCB#TRPBF-ND; Supplier 2: Newark; Supplier Part Number 2: 56M7985; Packing: Tape and Reel; RoHS: TRUE; Mounting Technology: Surface Mount; Code_JEDEC: MO-229; ComponentLink1Description: Manufacturer URL; ComponentLink1URL: http://www.linear.com/; ComponentLink2Description: Datasheet; ComponentLink2URL: http://cds.linear.com/docs/en/datasheet/3543fa.pdf; ComponentLink3Description: Package Specification; ComponentLink3URL: http://www.linear.com/docs/en/packaging/(DCB6)%20DFN%2005-08-1715%20Rev%20A.pdf
footprint LT-DCB-6_V (SON, 6-Leads, Body 3x2mm, Pitch 0.5mm, Thermal Pad 1.65x1.35mm)
pins: 1 SW (power) "Switch Node Connector to Inductor. This pin connects to the drains of the internal main and synchronous power MOSFET switches.", 2 CAP "Capacitor used for smoothing out spread spectrum or for PLL response. Connect to a capacitor whose other plate is connected to GND, or allow the pin to float. Value = 1nF - 10nF.", 3 MODE (in) "Mode Selection Pin.", 4 VFB (in) "Feedback sensing pin for the external feedback resistors.", 5 RUN (in) "Run Control Input. Forcing pin above 1.5V enables the part. Forcing the pin below 0.3V shuts down the device. In shutdown, all functions are disabled, drawing <1uA of supply current. Do not leave the RUN pin floating.", 6 VIN (power) "Main Supply Pin.", 7 EP (power) "Exposed Pad connected to ground."

## LTC3544BEUD#PBF
designator U?
Quad Synchronous Step-Down Regulator: 2.25 MHz, 300 mA, 200 mA, 200 mA, 100 mA, 16-pin QFN (UD-16), -40 to 85 degC, Pb-Free; Manufacturer: Linear Technology; PartNumber: LTC3544BEUD#PBF; Number of Outputs: 4; DatasheetVersion: Rev. B; PackageVersion: Jun-10; PackageReference: UD-16; PackageDescription: 16-Pin Plastic QFN, Body 3 x 3 mm, Pitch 0.5 mm; Supplier 1: Digi-Key; Supplier Part Number 1: LTC3544BEUD#PBF-ND; Supplier 2: Farnell; Supplier Part Number 2: 2295071; Supplier 3: Newark; Supplier Part Number 3: 56M7986; RoHS: TRUE; Mounting Technology: Surface Mount; Code_JEDEC: MO-220; ComponentLink1Description: Manufacturer URL; ComponentLink1URL: http://www.linear.com/; ComponentLink2Description: Datasheet; ComponentLink2URL: http://cds.linear.com/docs/en/datasheet/3544Bfb.pdf; ComponentLink3Description: Package Specification; ComponentLink3URL: http://cds.linear.com/docs/en/packaging/QFN_16_05-08-1691.pdf
footprint LT-UD-16_N (QFN, 16-Leads, Body 3x3mm, Pitch 0.5mm, Thermal Pad 1.45x1.45mm, IPC Medium Density)
footprint LT-UD-16_L (QFN, 16-Leads, Body 3x3mm, Pitch 0.5mm, Thermal Pad 1.45x1.45mm, IPC High Density)
footprint LT-UD-16_M (QFN, 16-Leads, Body 3x3mm, Pitch 0.5mm, Thermal Pad 1.45x1.45mm, IPC Low Density)
pins: 1 VFB200B (in) "200mA Regulator B Feedback Pin. This pin receives the feedback voltage from an external resistive divider across the output", 2 VFB200A (in) "200mA Regulator A Feedback Pin. This pin receives the feedback voltage from an external resistive divider across the output.", 3 RUN200A (in) "200mA Regulator A Enable Pin. Forcing this pin to VIN enables the 200mA regulator (channel A), while forcing it to GND causes the regulator to shut off", 4 SW200B (power) "Switch Node Connection to Inductor for 200mA Regulator B. This pin connects to the drains of the internal power MOSFET switches", 5 SW200A (power) "Switch Node Connection to Inductor for 200mA Regulator A. This pin connects to the drains of the internal power MOSFET switches.", 6 PGND (power) "Power Path Return Pin for Both 200mA Regulators and the 300mA Regulator", 7 PVIN (power) "Power Path Supply Pin for Both 200mA Regulators and the 300mA Regulator. This pin must be closely decoupled to PGND, with a 4.7uF or greater ceramic capacitor.", 8 SW300 (power) "Switch Node Connection to Inductor for 300mA Regulator. This pin connects to the drains of the internal power MOSFET switches", 9 RUN300 (in) "300mA Regulator Enable Pin. Forcing this pin to VIN enables the 300mA regulator, while forcing it to GND causes the regulator to shut off.", 10 VFB300 (in) "300mA Regulator Feedback Pin. This pin receives the feedback voltage from an external resistive divider across the output.", 11 VFB100 (in) "100mA Regulator Feedback Pin. This pin receives the feedback voltage from an external resistive divider across the output.", 12 RUN100 (in) "100mA Regulator Enable Pin. Forcing this pin to VIN enables the 100mA regulator, while forcing it to GND causes the 100mA regulator to shut off.", 13 SW100 (power) "Switch Node Connection to Inductor for 100mA Regulator. This pin connects to the drains of the internal power MOSFET switches.", 14 GNDA (power) "Ground Pin for Internal Reference and Control Circuitry. Power path return for the 100mA regulator", 15 VCC (power) "Supply Pin for Internal Reference and Control Circuitry. Power path supply pin for the 100mA regulator.", 16 RUN200B (in) "200mA Regulator B Enable Pin. Forcing this pin to VIN enables the 200mA regulator (channel B), while forcing it to GND causes the regulator to shut off.", 17 EP (power) "Ground. Must be soldered to PCB"

## LTC3544BEUD#TRPBF
designator U?
Quad Synchronous Step-Down Regulator: 2.25 MHz, 300 mA, 200 mA, 200 mA, 100 mA, 16-pin QFN (UD-16), -40 to 85 degC, Pb-Free, Tape and Reel; Manufacturer: Linear Technology; PartNumber: LTC3544BEUD#TRPBF; Number of Outputs: 4; DatasheetVersion: Rev. B; PackageVersion: Jun-10; PackageReference: UD-16; PackageDescription: 16-Pin Plastic QFN, Body 3 x 3 mm, Pitch 0.5 mm; Supplier 1: Digi-Key; Supplier Part Number 1: LTC3544BEUD#TRPBF-ND; Packing: Tape and Reel; RoHS: TRUE; Mounting Technology: Surface Mount; Code_JEDEC: MO-220; ComponentLink1Description: Manufacturer URL; ComponentLink1URL: http://www.linear.com/; ComponentLink2Description: Datasheet; ComponentLink2URL: http://cds.linear.com/docs/en/datasheet/3544Bfb.pdf; ComponentLink3Description: Package Specification; ComponentLink3URL: http://cds.linear.com/docs/en/packaging/QFN_16_05-08-1691.pdf
footprint LT-UD-16_N (QFN, 16-Leads, Body 3x3mm, Pitch 0.5mm, Thermal Pad 1.45x1.45mm, IPC Medium Density)
footprint LT-UD-16_L (QFN, 16-Leads, Body 3x3mm, Pitch 0.5mm, Thermal Pad 1.45x1.45mm, IPC High Density)
footprint LT-UD-16_M (QFN, 16-Leads, Body 3x3mm, Pitch 0.5mm, Thermal Pad 1.45x1.45mm, IPC Low Density)
pins: 1 VFB200B (in) "200mA Regulator B Feedback Pin. This pin receives the feedback voltage from an external resistive divider across the output", 2 VFB200A (in) "200mA Regulator A Feedback Pin. This pin receives the feedback voltage from an external resistive divider across the output.", 3 RUN200A (in) "200mA Regulator A Enable Pin. Forcing this pin to VIN enables the 200mA regulator (channel A), while forcing it to GND causes the regulator to shut off", 4 SW200B (power) "Switch Node Connection to Inductor for 200mA Regulator B. This pin connects to the drains of the internal power MOSFET switches", 5 SW200A (power) "Switch Node Connection to Inductor for 200mA Regulator A. This pin connects to the drains of the internal power MOSFET switches.", 6 PGND (power) "Power Path Return Pin for Both 200mA Regulators and the 300mA Regulator", 7 PVIN (power) "Power Path Supply Pin for Both 200mA Regulators and the 300mA Regulator. This pin must be closely decoupled to PGND, with a 4.7uF or greater ceramic capacitor.", 8 SW300 (power) "Switch Node Connection to Inductor for 300mA Regulator. This pin connects to the drains of the internal power MOSFET switches", 9 RUN300 (in) "300mA Regulator Enable Pin. Forcing this pin to VIN enables the 300mA regulator, while forcing it to GND causes the regulator to shut off.", 10 VFB300 (in) "300mA Regulator Feedback Pin. This pin receives the feedback voltage from an external resistive divider across the output.", 11 VFB100 (in) "100mA Regulator Feedback Pin. This pin receives the feedback voltage from an external resistive divider across the output.", 12 RUN100 (in) "100mA Regulator Enable Pin. Forcing this pin to VIN enables the 100mA regulator, while forcing it to GND causes the 100mA regulator to shut off.", 13 SW100 (power) "Switch Node Connection to Inductor for 100mA Regulator. This pin connects to the drains of the internal power MOSFET switches.", 14 GNDA (power) "Ground Pin for Internal Reference and Control Circuitry. Power path return for the 100mA regulator", 15 VCC (power) "Supply Pin for Internal Reference and Control Circuitry. Power path supply pin for the 100mA regulator.", 16 RUN200B (in) "200mA Regulator B Enable Pin. Forcing this pin to VIN enables the 200mA regulator (channel B), while forcing it to GND causes the regulator to shut off.", 17 EP (power) "Ground. Must be soldered to PCB"